# Altium footprint library USB3.0 Type B Vertical.PcbLib: 1 footprints
Each footprint in its own frame and in the unit in brackets; x right, y up, seen from the top. Pads: shape width x height; smd on the part's side, far side on the other; paste and mask are expansions set on the pad; w line width, h text height; cw(c..) or ccw(c..) is an arc to the next point about the centre after c.
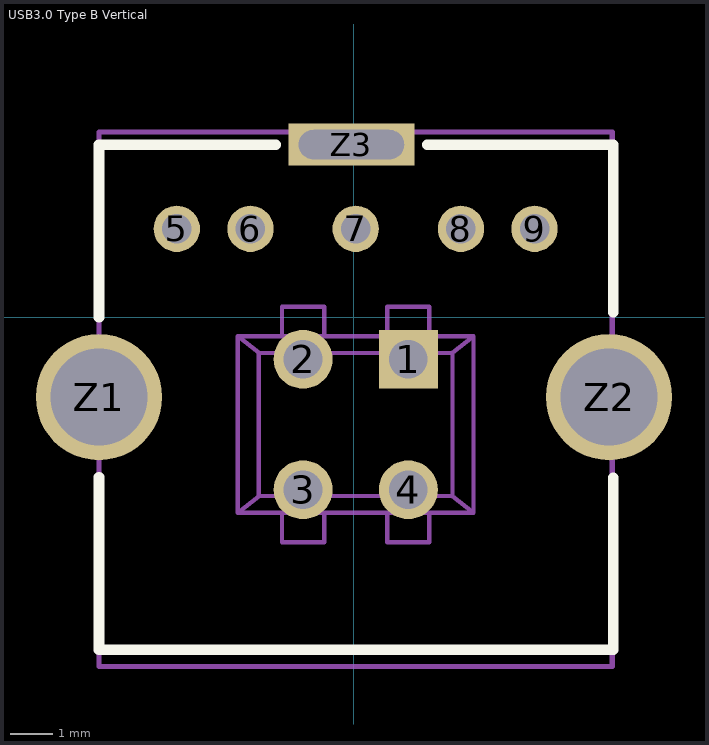
[diagram p0: the footprint, top view; thin cyan lines are the x and y axes]

## USB3.0 Type B Vertical [mm] "USB3.0 Type B Vertical"
height 16
pads (12):
  rect 1.4x1.4 hole 0.92: 1(1.29,-1)
  round 1.4 hole 0.92: 2(-1.21,-1) 3(-1.21,-4.1) 4(1.29,-4.1)
  round 1.1 hole 0.7: 5(-4.21,2.1) 6(-2.46,2.1) 7(0.04,2.1) 8(2.54,2.1) 9(4.29,2.1)
  round 3 hole 2.3: Z1(-6.06,-1.9) Z2(6.06,-1.9)
  rect 3x1 hole 0.7 slot 2.5 at 0 deg: Z3(-0.06,4.1)
Top Overlay:
  lines w0.254: -6.06,-3.8 -6.06,-7.9 6.157,-7.9 6.157,-3.817 ; -1.86,4.1 -6.06,4.1 -6.06,0 ; 1.74,4.1 6.157,4.1 6.157,0.117 ; -6.06,0 -6.06,0
Mechanical 13:
  lines w0.102: -1.71,-4.65 -1.71,-5.35 -0.71,-5.35 -0.71,-4.65 ; -1.71,-0.45 -1.71,0.25 -0.71,0.25 -0.71,-0.45 ; 0.79,-4.65 0.79,-5.35 1.79,-5.35 1.79,-4.65 ; 0.79,-0.45 0.79,0.25 1.79,0.25 1.79,-0.45 ; -2.76,-4.65 2.84,-4.65 ; -2.76,-4.65 -2.76,-0.45 ; -2.76,-4.65 -2.26,-4.25 ; -2.76,-0.45 2.84,-0.45 ; -2.76,-0.45 -2.26,-0.85 ; -2.26,-4.25 2.34,-4.25 ; -2.26,-4.25 -2.26,-0.85 ; -2.26,-0.85 2.34,-0.85 ; 2.34,-4.25 2.34,-0.85 ; 2.34,-4.25 2.84,-4.65 ; 2.34,-0.85 2.84,-0.45 ; 2.84,-4.65 2.84,-0.45
  lines w0.127: -6.06,-8.3 -6.06,4.4 6.14,4.4 6.14,-8.3 -6.06,-8.3
Mechanical 15:
  lines w0.127: -6.06,-8.3 6.14,-8.3 6.14,4.4 -6.06,4.4 -6.06,-8.3
3D body: height 15.2, standoff -5.1, extent -6.01,-8.35 6.09,4.35